# Altium schematic symbol library PTZTFTE257.5B.SchLib: 1 symbol
Pins are listed as number, name and electrical type; pins without a type are passive.

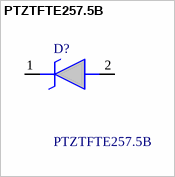
[diagram p0: symbol PTZTFTE257.5B]

## PTZTFTE257.5B
designator D?
1W 7.5V, DO-214AC, High Power Zener Diode for Automotive; Manufacturer_Name: ROHM Semiconductor; Geometry.Height: 2.2mm; Mouser Part Number: *; Mouser Price/Stock: *; Manufacturer_Part_Number: PTZTFTE257.5B; Datasheet Link: https://fscdn.rohm.com/en/products/databook/datasheet/discrete/diode/zener/ptztfte257.5b-e.pdf
footprint PTZTFTE2575B
pins: 1 K, 2 A